# EAGLE library part AD8607 (library SparkFun-AnalogIC)
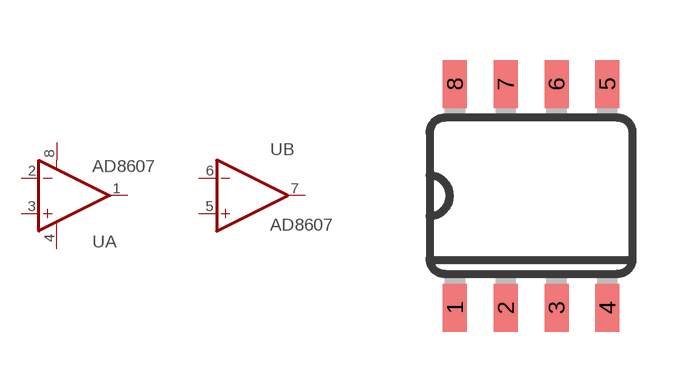
[diagram p13: symbol with the pads of SO08-TIGHT; footprint SO08-TIGHT]

Designator prefix U; gates A=OP-AMP+--2 B=OP-AMP-1-1

## AD8607 (PROD_ID: IC-13133; VALUE: AD8607)  [SO08-TIGHT]
1  A:OUT  out
2  A:-IN  in
3  A:+IN  in
4  A:V-  pwr
5  B:+IN  in
6  B:-IN  in
7  B:OUT  out
8  A:V+  pwr

## Footprint SO08-TIGHT (pad centres in mm)
smd 0.6 x 1.2: 1 -1.905,-2.8; 2 -0.635,-2.8; 3 0.635,-2.8; 4 1.905,-2.8; 5 1.905,2.8; 6 0.635,2.8; 7 -0.635,2.8; 8 -1.905,2.8